# Altium integrated library 1273ПН1Т1.IntLib: 1 symbol
Pins are listed as number, name and electrical type; pins without a type are passive.

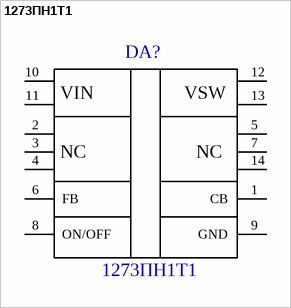
[diagram p0: symbol 1273ПН1Т1]

## 1273ПН1Т1
designator DA?
Manufacturer: АО"НИИЭТ"; Library Developer: Aleksey Voronov   (aleksey.voronov.36@yandex.ru); HelpURL: https://niiet.ru/
footprint 401.14-5М
pins: 1 CB, 2 NC, 3 NC, 4 NC, 5 NC, 6 FB, 7 NC, 8 ON/OFF, 9 GND, 10 VIN, 11 VIN, 12 VSW, 13 VSW, 14 NC